# Altium footprint library Components - 23.04.26 - 15.08.PcbLib: 1 footprints
Each footprint in its own frame and in the unit in brackets; x right, y up, seen from the top. Pads: shape width x height; smd on the part's side, far side on the other; paste and mask are expansions set on the pad; w line width, h text height; cw(c..) or ccw(c..) is an arc to the next point about the centre after c.
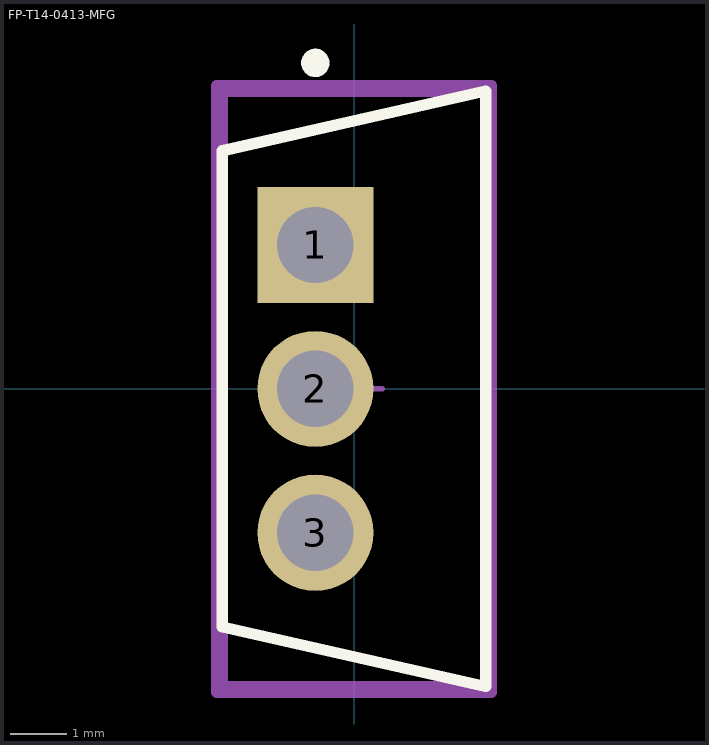
[diagram p0: the footprint, top view; thin cyan lines are the x and y axes]

## FP-T14-0413-MFG [mm]
pads (3):
  rect 2.05x2.05 hole 1.35 paste-2539.97 mask+0: 1(-0.683,2.54)
  round 2.05 hole 1.35 paste-2539.97 mask+0: 2(-0.683,0) 3(-0.683,-2.54)
Top Overlay:
  circle w0.25: c-0.683,5.755 r0.125
  lines w0.2: 2.325,-5.255 -2.325,-4.204 -2.325,4.204 2.325,5.255 ; 2.325,-5.205 2.325,5.205
Top Assembly:
  lines w0.2: -2.425,-5.355 -2.425,5.355 2.425,5.355 2.425,-5.355 -2.425,-5.355
  text ".Designator" at 0,-0.001 h1
Top 3D Body:
  lines w0.2: -2.325,-5.255 -2.325,5.255 2.325,5.255 2.325,-5.255 -2.325,-5.255
Top Courtyard:
  lines w0.2: -2.425,-5.355 -2.425,5.355 2.425,5.355 2.425,-5.355 -2.425,-5.355
Top Component Center:
  lines w0.1: -0.5,0 0.5,0 ; 0,-0.5 0,0.5
3D body "Trans_Vishay_SUP90P06-09L-E3_eec.STEP": height 0.25, standoff 0, extent -2.425,-5.355 2.425,5.355